# Altium schematic symbol library AOD409.SchLib: 1 symbol
Pins are listed as number, name and electrical type; pins without a type are passive.

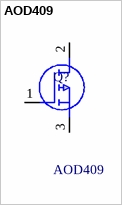
[diagram p0: symbol AOD409]

## AOD409
designator Q?
60V P-Channel MOSFET; Manufacturer_Name: Alpha & Omega Semiconductors; Geometry.Height: 2.4mm; Manufacturer_Part_Number: AOD409; Mouser Part Number: *; Mouser Price/Stock: *; Arrow Part Number: AOD409; Arrow Price/Stock: https://www.arrow.com/en/products/aod409/alpha-and-omega-semiconductor?region=nac; Datasheet Link: http://www.aosmd.com/res/data_sheets/AOD409.pdf
footprint AOD409
pins: 1 G, 2 D, 3 S